# EAGLE library part RKJXV122400R (library WarthogRobotics-Switches)
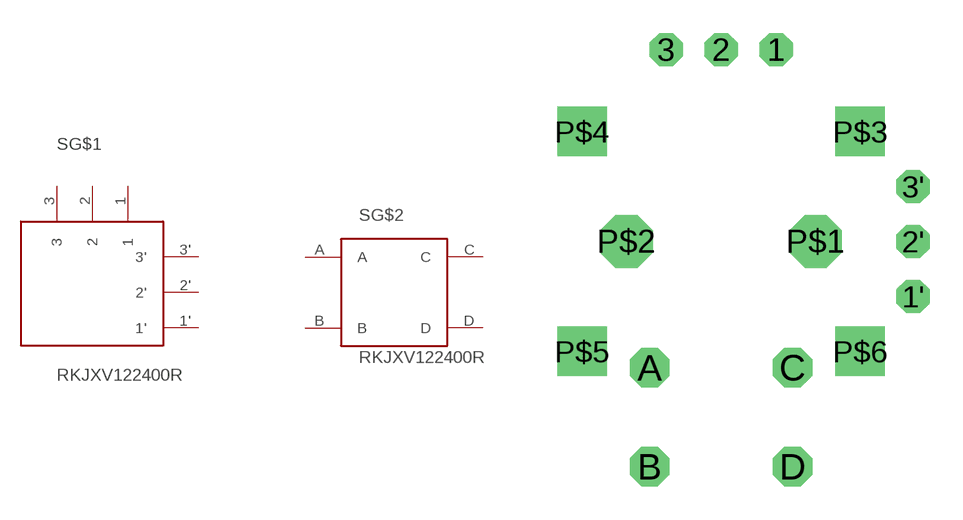
[diagram p1: symbol with the pads of RKJXV122400R; footprint RKJXV122400R]

Designator prefix S; gates G$1=RKJXV122400R G$2=RKJXV122400R_BUTTON

## RKJXV122400R  [RKJXV122400R]
1  G$1:1
1'  G$1:1'
2  G$1:2
2'  G$1:2'
3  G$1:3
3'  G$1:3'
A  G$2:A
B  G$2:B
C  G$2:C
D  G$2:D

## Footprint RKJXV122400R (pad centres in mm)
drill 1 octagon: 1 2.5,8.73; 1' 8.73,-2.5; 2 0,8.73; 2' 8.73,0; 3 -2.5,8.73; 3' 8.73,2.5
drill 1.2 pad 1.422 octagon: A -3.25,-5.75; C 3.25,-5.75
drill 1.2 octagon: B -3.25,-10.25; D 3.25,-10.25
drill 1.6 octagon: P$1 4.3,0; P$2 -4.3,0
drill 1.5 square: P$3 6.325,5; P$4 -6.325,5; P$5 -6.325,-5; P$6 6.325,-5